# EAGLE library part PIC18F14K50_DIP20 (library MyLib)
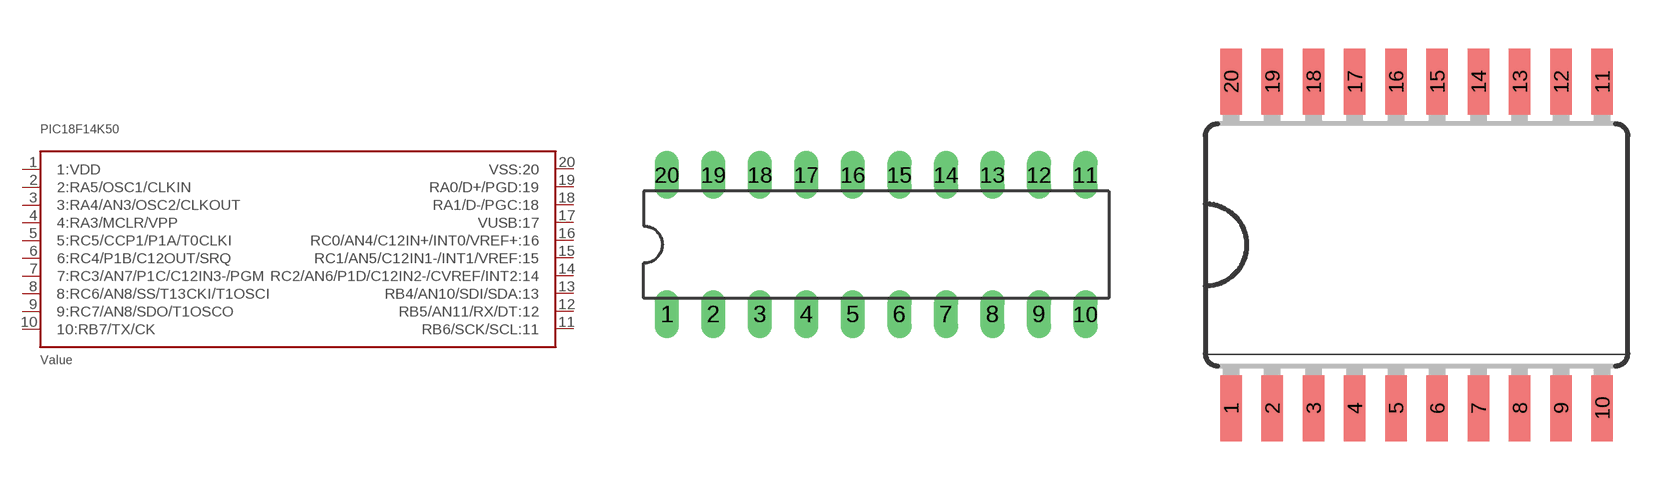
[diagram p1: symbol with the pads of DIL20; footprints DIL20, SO20W]

Designator prefix -

## PIC18F14K50_DIP20DIL20  [DIL20]
1  1:VDD
2  2:RA5/OSC1/CLKIN
3  3:RA4/AN3/OSC2/CLKOUT
4  4:RA3/MCLR/VPP
5  5:RC5/CCP1/P1A/T0CLKI
6  6:RC4/P1B/C12OUT/SRQ
7  7:RC3/AN7/P1C/C12IN3-/PGM
8  8:RC6/AN8/SS/T13CKI/T1OSCI
9  9:RC7/AN8/SDO/T1OSCO
10  10:RB7/TX/CK
11  RB6/SCK/SCL:11
12  RB5/AN11/RX/DT:12
13  RB4/AN10/SDI/SDA:13
14  RC2/AN6/P1D/C12IN2-/CVREF/INT2:14
15  RC1/AN5/C12IN1-/INT1/VREF:15
16  RC0/AN4/C12IN+/INT0/VREF+:16
17  VUSB:17
18  RA1/D-/PGC:18
19  RA0/D+/PGD:19
20  VSS:20

## PIC18F14K50_DIP20SO20W  [SO20W]
Pads as for DIL20

## PIC18F14K50_DIP20  [SSOP20]
Pads as for DIL20

## Footprint DIL20 (pad centres in mm)
Dual In Line Package
drill 0.813 long: 1 -11.43,-3.81; 2 -8.89,-3.81; 3 -6.35,-3.81; 4 -3.81,-3.81; 5 -1.27,-3.81; 6 1.27,-3.81; 7 3.81,-3.81; 8 6.35,-3.81; 9 8.89,-3.81; 10 11.43,-3.81; 11 11.43,3.81; 12 8.89,3.81; 13 6.35,3.81; 14 3.81,3.81; 15 1.27,3.81; 16 -1.27,3.81; 17 -3.81,3.81; 18 -6.35,3.81; 19 -8.89,3.81; 20 -11.43,3.81

## Footprint SO20W (pad centres in mm)
Wide Small Outline package 300 mil
smd 0.66 x 2.032: 1 -5.715,-5.029; 2 -4.445,-5.029; 3 -3.175,-5.029; 4 -1.905,-5.029; 5 -0.635,-5.029; 6 0.635,-5.029; 7 1.905,-5.029; 8 3.175,-5.029; 9 4.445,-5.029; 10 5.715,-5.029; 11 5.715,5.029; 12 4.445,5.029; 13 3.175,5.029; 14 1.905,5.029; 15 0.635,5.029; 16 -0.635,5.029; 17 -1.905,5.029; 18 -3.175,5.029; 19 -4.445,5.029; 20 -5.715,5.029

## Footprint SSOP20 (pad centres in mm)
Small Shrink Outline Package
smd 0.305 x 1.245: 1 -2.857,-3.302; 2 -2.222,-3.302; 3 -1.587,-3.302; 4 -0.952,-3.302; 5 -0.317,-3.302; 6 0.318,-3.302; 7 0.953,-3.302; 8 1.588,-3.302; 9 2.223,-3.302; 10 2.858,-3.302; 11 2.858,3.302; 12 2.223,3.302; 13 1.588,3.302; 14 0.953,3.302; 15 0.318,3.302; 16 -0.317,3.302; 17 -0.952,3.302; 18 -1.587,3.302; 19 -2.222,3.302; 20 -2.857,3.302